# Altium footprint library 2024-11-27_20-40-21.PcbLib: 1 footprints
Each footprint in its own frame and in the unit in brackets; x right, y up, seen from the top. Pads: shape width x height; smd on the part's side, far side on the other; paste and mask are expansions set on the pad; w line width, h text height; cw(c..) or ccw(c..) is an arc to the next point about the centre after c.
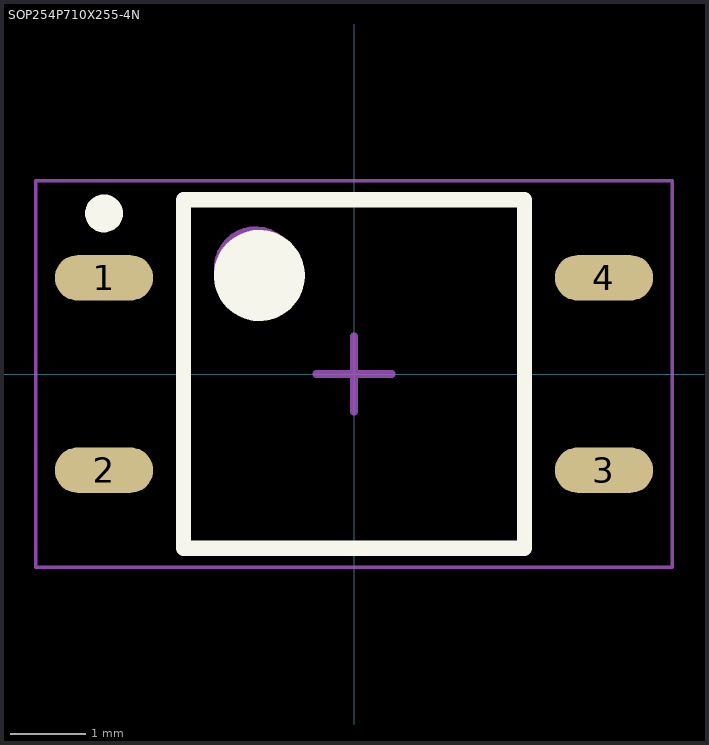
[diagram p0: the footprint, top view; thin cyan lines are the x and y axes]

## SOP254P710X255-4N [mm] "SOP, 4-Leads, Body 4.57x4.38mm, Pitch 2.54mm, IPC Medium Density"
height 2.55
pads (4):
  oval 1.3x0.6 smd: 1(-3.3,1.27) 2(-3.3,-1.27) 3(3.3,-1.27) 4(3.3,1.27)
Top Overlay:
  circle w0.6: c-1.25,1.3 r0.3
  circle w0.25: c-3.3,2.12 r0.125
  lines w0.2: -2.25,-2.3 2.25,-2.3 2.25,2.3 -2.25,2.3 -2.25,-2.3
Mechanical 13:
  circle w0.1: c-1.3,1.4 r0.5
  lines w0.1: -2.2,-2.3 2.2,-2.3 2.2,2.3 -2.2,2.3 -2.2,-2.3
Mechanical 15:
  lines w0.05: -4.2,-2.55 4.2,-2.55 4.2,2.55 -4.2,2.55 -4.2,-2.55
  lines w0.1: -0.5,0 0.5,0 ; 0,-0.5 0,0.5
3D body: height 2.55, standoff 0.2, extent -2.2,-2.3 2.2,2.3
3D body "C226S_COT.step": height 1.7, standoff 0, extent -3.556,-2.299 3.556,2.299